# Altium schematic symbol library SS34.SchLib: 1 symbol
Pins are listed as number, name and electrical type; pins without a type are passive.

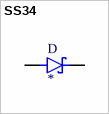
[diagram p0: symbol SS34]

## SS34
designator D
Diode Schottky 40V 3A Surface Mount SMC _DO-214AB_; MP: SS34; MF: ON Semiconductor; SnapEDA_Link: https://www.snapeda.com/parts/SS34/ON%20Semiconductor/view-part/4631325/?ref=snap; Availability: Unavailable; Price: None; Value: *; Package: DO-214AB-214 ON Semiconductor
footprint DIOM7959X265N
pins: 1 A, 2 K